# Altium schematic symbol library resonator_common.SchLib: 1 symbol
Pins are listed as number, name and electrical type; pins without a type are passive.

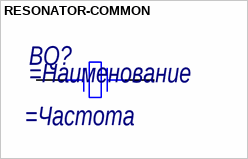
[diagram p0: symbol RESONATOR-COMMON]

## RESONATOR-COMMON
designator BQ?
=Описание; Частотa: =Частота
pins: 1, 2